# Altium schematic symbol library CryptLib.SchLib: 59 symbols (part 2 of 2)
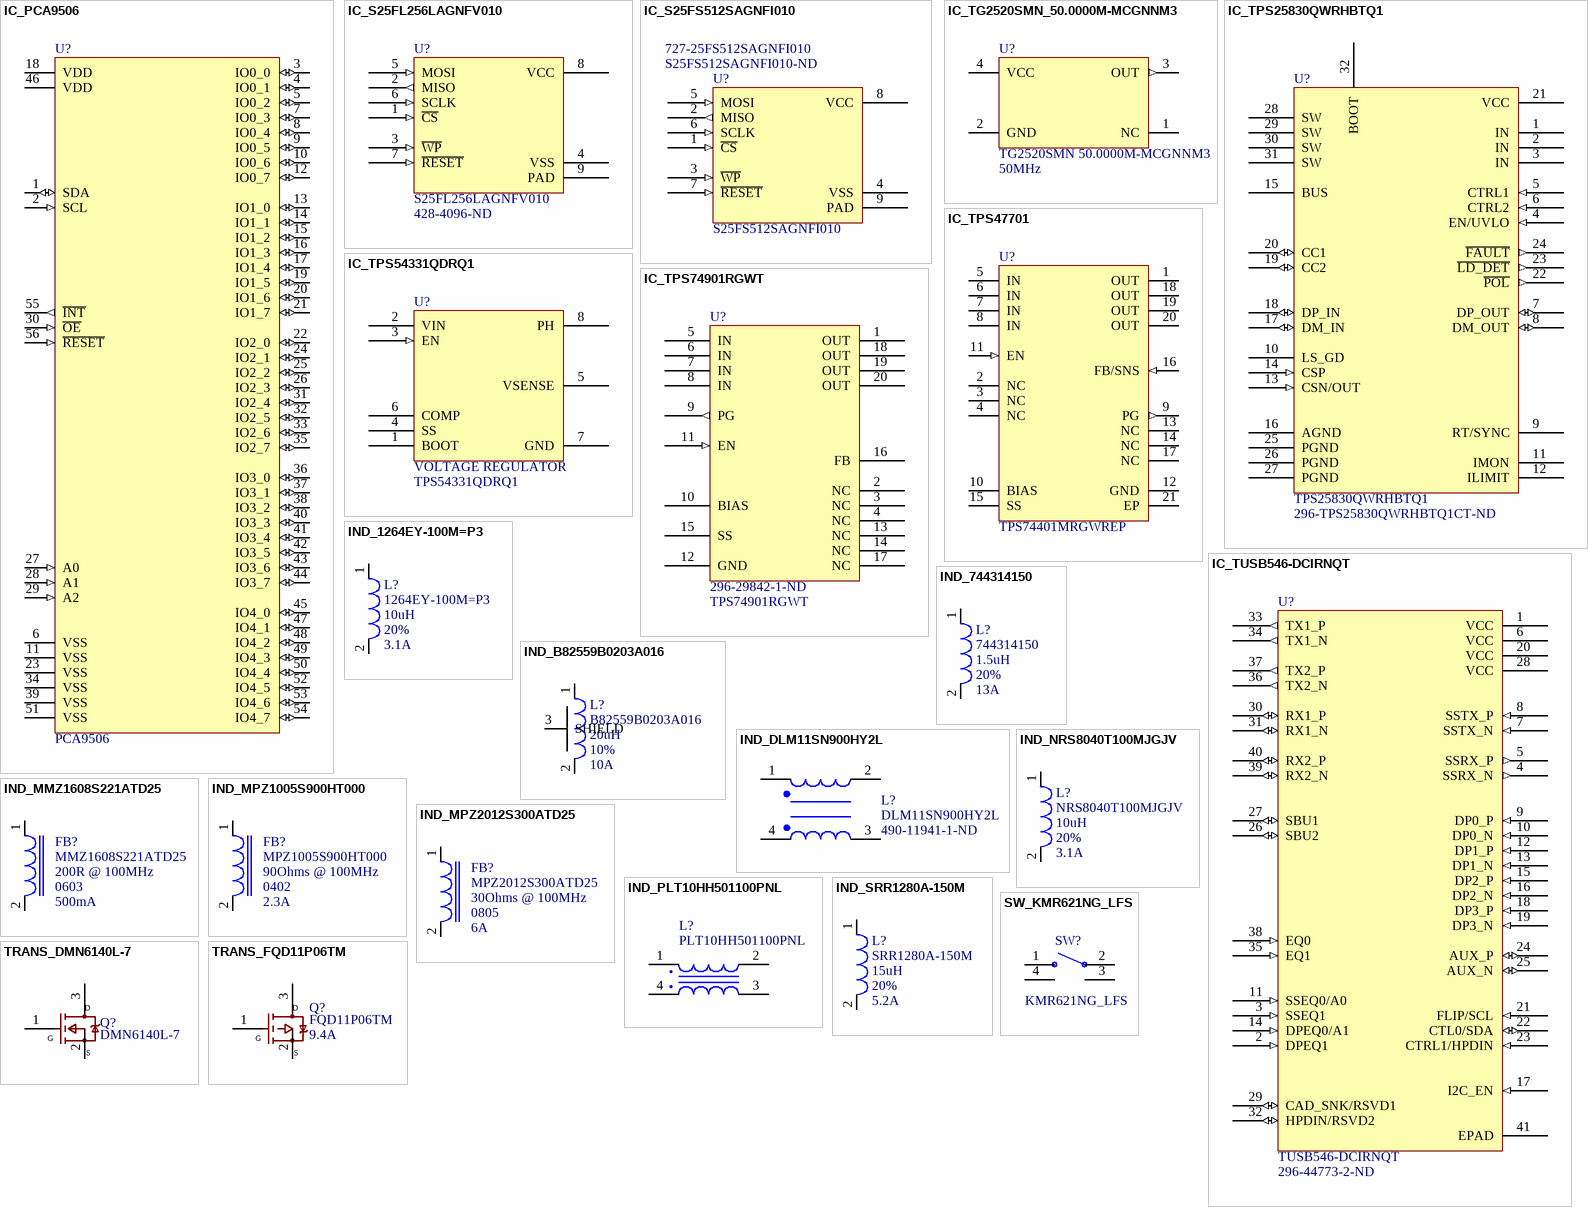
[diagram p4: symbols IC_PCA9506 to TRANS_FQD11P06TM]

## IND_B82559B0203A016
designator L?, comment B82559B0203A016  Inductance: 20uH  Tolerance: 10%  Current Rating: 10A
20uH Shielded 10A Inductor; Mfr: TDK; Material: Ferrite; Resistance: 12.1mR; Operating Temperature: -40C to 150C; Created By: Pascal-Emmanuel Lachance; Rating: AEC-Q200; ComponentLink1Description: Datasheet; ComponentLink1URL: https://media.digikey.com/pdf/Data%20Sheets/TDK%20PDFs/B82559BxA016_Series_DS.pdf; ComponentLink2Description: Digikey; ComponentLink2URL: https://www.digikey.ca/en/products/detail/epcos-tdk-electronics/B82559B0203A016/13165560; ComponentLink3Description: Mouser; ComponentLink3URL: https://www.mouser.ca/ProductDetail/EPCOS-TDK/B82559B0203A016; ComponentLink4Description: Mfr page; ComponentLink4URL: https://product.tdk.com/en/search/inductor/inductor/smd/info?part_no=B82559B0203A016; ComponentLink5Description: Octoparts; ComponentLink5URL: https://octopart.com/b82559b0203a016-epcos-111982021; Supplier 1: Digi-Key; Supplier Part Number 1: 495-B82559B0203A016CT-ND
footprint B82559B0203A016 (Shielded inductor)
pins: 1, 2, 3 SHIELD

## IND_DLM11SN900HY2L
designator L?, comment DLM11SN900HY2L  Supplier Part Number 1: 490-11941-1-ND
2 Line Common Mode Choke Surface Mount 90 Ohms @ 100MHz 100mA DCR 1.38Ohm; Voltage Rating: 5V; Impedance: 90 Ohms @ 100MHz; Current Rating: 100mA; DC resistance: 1.38Ohm; Operating Temperature: -40C - 85C; Package: 0504; Supplier 1: Digi-Key
footprint DLM11SN900HY2L
pins: 1, 2, 3, 4

## IND_MMZ1608S221ATD25
designator FB?, comment MMZ1608S221ATD25  Impedance @ Freq: 200R @ 100MHz  Package / Case: 0603  Current Rating: 500mA
220 Ohms @ 100 MHz 1 Signal Line Ferrite Bead 0603 (1608 Metric) 500mA 200mOhm; Mfr: TDK Corporation; Resistance: 200mOhms; Operating Temperature: -55C - 125C; Rating: AEC-Q200
footprint IND_0603
pins: 1, 2

## IND_MPZ1005S900HT000
designator FB?, comment MPZ1005S900HT000  Impedance @ Freq: 90Ohms @ 100MHz  Package / Case: 0402  Current Rating: 2.3A
90 Ohms @ 100 MHz 1 Power Line Ferrite Bead 0402 (1005 Metric) 2.3A 38mOhm; Resistance: 38mOhms; Operating Temperature: -55C - 125C; Rating: AEC-Q200
footprint IND_0402
pins: 1, 2

## IND_MPZ2012S300ATD25
designator FB?, comment MPZ2012S300ATD25  Impedance @ Freq: 30Ohms @ 100MHz  Package / Case: 0805  Current Rating: 6A
30 Ohms @ 100 MHz 1 Power Line Ferrite Bead 0805 (2012 Metric) 6A 10mOhm; Resistance: 10mOhms; Operating Temperature: -55C - 125C; Rating: AEC-Q200
footprint IND_0805
pins: 1, 2

## IND_NRS8040T100MJGJV
designator L?, comment NRS8040T100MJGJV  Inductance: 10uH  Tolerance: 20%  Current Rating: 3.1A
FIXED IND 10UH 3.1A 44.2MOHM SMD; Material: Ferrite; Resistance: 44.2mR; Operating Temperature: -40C - 125C; Package / Case: Nonstandard
footprint NRS8040T100MJGJV
pins: 1, 2

## IND_PLT10HH501100PNL
designator L?, comment PLT10HH501100PNL
2 Line Common Mode Choke Surface Mount 500 Ohms @ 10MHz 10A DCR 4.1mOhm; mfr: Murata; Impedance @ 10MHz: 500R; DC Resistance: 4.1mR; Voltage Rating: 100V; Rating: Automotive (AEC-Q200); Value: *; Current Rating: 10A; Operating Temperature: -55C - 105C; Created By: Pascal-Emmanuel Lachance; ComponentLink1Description: Datasheet; ComponentLink1URL: https://www.murata.com/en-eu/products/productdata/8796754935838/QFLB9101.pdf; ComponentLink2Description: Mfr page; ComponentLink2URL: https://www.murata.com/en-us/products/productdetail?partno=PLT10HH501100PN%23; ComponentLink3Description: Digikey; ComponentLink3URL: https://www.digikey.ca/en/products/detail/murata-electronics/PLT10HH501100PNL/6196056; ComponentLink4Description: Mouser; ComponentLink4URL: https://www.mouser.ca/ProductDetail/Murata-Electronics/PLT10HH501100PNL
footprint PLT10HH501100PNL
pins: 1, 2, 3, 4

## IND_SRR1280A-150M
designator L?, comment SRR1280A-150M  Inductance: 15uH  Tolerance: 20%  Current Rating: 5.2A
FIXED IND 15UH 5.2A 28.5MOHM SMD; Material: Ferrite; Resistance: 28.5mOhm; Operating Temperature: -40C - 125C; Package / Case: 1280
footprint SRR1280A-150M
pins: 1, 2

## SW_KMR621NG_LFS
designator SW?, comment KMR621NG_LFS
Tactile Switch SPST-NO Top Actuated Surface Mount; Mfr: C&K; Alternative Part: KMR641NG ULC LFS; Contact Rating: 50mA @ 32V; Type: SPST-NO; Operating Temperature: -40C to 85C; Supplier 1: Newark; Supplier Part Number 1: 35AH0964; Digikey #: CKN10686CT-ND; ComponentLink1Description: Digikey; ComponentLink1URL: https://www.digikey.ca/en/products/detail/c-k/KMR641NG-ULC-LFS/6035352; ComponentLink2Description: Datasheet; ComponentLink2URL: https://www.ckswitches.com/media/1907/kmr6.pdf
footprint KMR621NGLFS
pins: 1, 2, 3 2, 4 1

## TRANS_DMN6140L-7
designator Q?, comment DMN6140L-7
N-Channel 60 V 1.6A (Ta) 700mW (Ta) Surface Mount SOT-23; Mfr: Diodes Incorporated; Vds: 60V; Rds ON: 140mR; Vgs: 3V; Package / Case: SOT-23; Operating Temperature: -55C - 150C; Current: 1.6A; Supplier 1: Digi-Key; Supplier 2: RSComponents; Supplier Part Number 2: 9211120; Supplier Part Number 1: DMN6140L-7DICT-ND
footprint SOT23-3
pins: 1, 2, 3
text: D; G; S

## TRANS_FQD11P06TM
designator Q?, comment FQD11P06TM  Current: 9.4A
MOSFET P-CH 60V 9.4A DPAK; Mfr: ON Semiconductor; Rds ON: 185mOhms; Vgs: +-30V; Package / Case: DPAK; Vds: 60V; Operating Temperature: -55C - 150C; Digikey Part Number: FQD11P06TMCT-ND; ComponentLink1Description: Digikey; ComponentLink1URL: https://www.digikey.ca/en/products/detail/on-semiconductor/FQD11P06TM/1054286; ComponentLink2Description: Mouser; ComponentLink2URL: https://www.mouser.ca/ProductDetail/ON-Semiconductor-Fairchild/FQD11P06TM; Supplier 1: Digi-Key; Supplier 2: Mouser; Supplier 3: RSComponents; Supplier 4: Arrow Electronics; Supplier Part Number 4: FQD11P06TM; Supplier Part Number 3: 6710949; Supplier Part Number 2: 512-FQD11P06TM; Supplier Part Number 1: FQD11P06TMCT-ND
footprint FQD11P06TM
pins: 1 G, 2 S, 3 D